# EAGLE library part MPU-9250 (library MPU-9250)
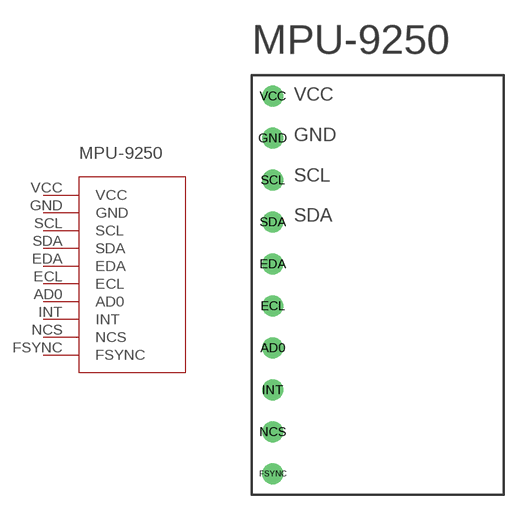
[diagram p0: symbol with the pads of MPU-9250; footprint MPU-9250]

Designator prefix MPU-9250

## MPU-9250  [MPU-9250]
AD0  AD0
ECL  ECL
EDA  EDA
FSYNC  FSYNC
GND  GND
INT  INT
NCS  NCS
SCL  SCL
SDA  SDA
VCC  VCC

## Footprint MPU-9250 (pad centres in mm)
drill 0.6 pad 1.27: AD0 1.27,-16.51; ECL 1.27,-13.97; EDA 1.27,-11.43; FSYNC 1.27,-24.13; GND 1.27,-3.81; INT 1.27,-19.05; NCS 1.27,-21.59; SCL 1.27,-6.35; SDA 1.27,-8.89; VCC 1.27,-1.27